# Altium schematic symbol library Sensor_Temperature.SchLib: 119 symbols (part 1 of 2)
Pins are listed as number, name and electrical type; pins without a type are passive.

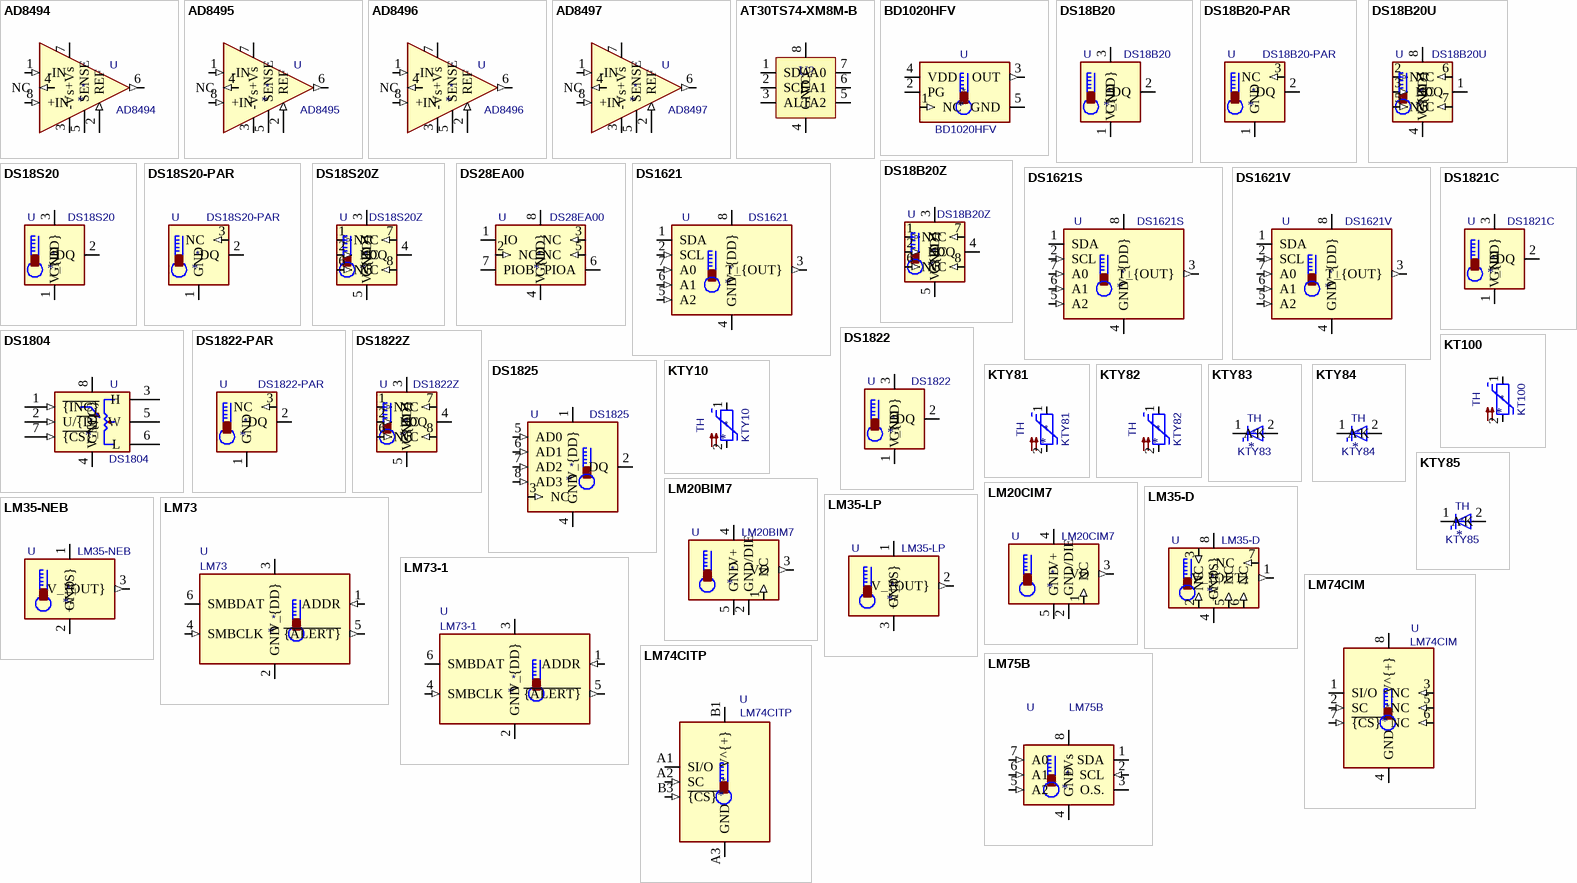
[diagram p0: symbols AD8494 to LM75B]

## AD8494
designator *  value AD8494  Reference: U
Precision Thermocouple Amplifiers with Cold Junction Compensation, J-Type Thermocouple, 0 to 50C, MSOP-8; ki_fp_filters: MSOP*8*; Footprint: Package_SO:MSOP-8_3x3mm_P0.65mm; Datasheet: https://www.analog.com/media/en/technical-documentation/data-sheets/ad8494_8495_8496_8497.pdf; Description_: Precision Thermocouple Amplifiers with Cold Junction Compensation, J-Type Thermocouple, 0 to 50C, MSOP-8; ki_keywords: Thermocouple Amp
pins: 1 -IN (in), 2 REF (in), 3 -Vs (power), 4 NC (in), 5 SENSE, 6 (out), 7 +Vs (power), 8 +IN (in)

## AD8495
designator *  value AD8495  Reference: U
Precision Thermocouple Amplifiers with Cold Junction Compensation, K-Type Thermocouple, 0 to 50C, MSOP-8; ki_fp_filters: MSOP*8*; Footprint: Package_SO:MSOP-8_3x3mm_P0.65mm; Datasheet: https://www.analog.com/media/en/technical-documentation/data-sheets/ad8494_8495_8496_8497.pdf; Description_: Precision Thermocouple Amplifiers with Cold Junction Compensation, K-Type Thermocouple, 0 to 50C, MSOP-8; ki_keywords: Thermocouple Amp
pins: 1 -IN (in), 2 REF (in), 3 -Vs (power), 4 NC (in), 5 SENSE, 6 (out), 7 +Vs (power), 8 +IN (in)

## AD8496
designator *  value AD8496  Reference: U
Precision Thermocouple Amplifiers with Cold Junction Compensation, J-Type Thermocouple, 25 to 100C, MSOP-8; ki_fp_filters: MSOP*8*; Footprint: Package_SO:MSOP-8_3x3mm_P0.65mm; Datasheet: https://www.analog.com/media/en/technical-documentation/data-sheets/ad8494_8495_8496_8497.pdf; Description_: Precision Thermocouple Amplifiers with Cold Junction Compensation, J-Type Thermocouple, 25 to 100C, MSOP-8; ki_keywords: Thermocouple Amp
pins: 1 -IN (in), 2 REF (in), 3 -Vs (power), 4 NC (in), 5 SENSE, 6 (out), 7 +Vs (power), 8 +IN (in)

## AD8497
designator *  value AD8497  Reference: U
Precision Thermocouple Amplifiers with Cold Junction Compensation, K-Type Thermocouple, 25 to 100C, MSOP-8; ki_fp_filters: MSOP*8*; Footprint: Package_SO:MSOP-8_3x3mm_P0.65mm; Datasheet: https://www.analog.com/media/en/technical-documentation/data-sheets/ad8494_8495_8496_8497.pdf; Description_: Precision Thermocouple Amplifiers with Cold Junction Compensation, K-Type Thermocouple, 25 to 100C, MSOP-8; ki_keywords: Thermocouple Amp
pins: 1 -IN (in), 2 REF (in), 3 -Vs (power), 4 NC (in), 5 SENSE, 6 (out), 7 +Vs (power), 8 +IN (in)

## AT30TS74-XM8M-B
designator U?  (value not drawn)
Board Mount Temperature Sensors I2C1.7-5.5V 3.4MHz Ind High Tmp 8-MSOP; Manufacturer: Microchip; Manufacturer Lifecycle Status: REL; Value: AT30TS74-XM8M-B; Interface: 2-Wire, I2C, SMBus; Max Supply Voltage: 5.5V; Min Supply Voltage: 1.7V; Operating Supply Current: 225µA; Output Type: Digital, I2C; Resolution: 1.375B; Case/Package: MSOP; Category: Temperature and Humidity Sensors; Contact Plating: Gold; Country of Assembly: Thailand; Country of Fabrication: United States of America; Country of Origin: Thailand; Export Control Classification Number (ECCN) Code: EAR99; Harmonized Tariff Schedule (HTS) Code: 8542.31.0075; Height: 1.1mm; HS Code: 8542.31.0075; Lifecycle Status: Production; Manufacturer Part Number: AT30TS74-XM8M-B; Max Operating Temperature: 125°C; Min Operating Temperature: -55°C; Mount: Surface Mount; Number of Pins: 8; Operating Supply Voltage: 5.5V; Packaging: Bulk; Projected EOL Date: 2044-05-20; RoHS: Compliant; Schedule B: 8542390000|8542390000; Supplier 1: Mouser; Supplier Part Number 1: 556-AT30TS74-XM8M-B; Supplier Packaging 1: Tube; Supplier Unit Price 1: $0.87; Supplier Location 1: US
footprint MSOP-8_3x3mm_P0.65mm
pins: 1 SDA, 2 SCL, 3 ALT, 4 GND (power), 5 A2, 6 A1, 7 A0, 8 VCC

## BD1020HFV
designator *  value BD1020HFV  Reference: U
Analog Output Temperature Sensor; ki_fp_filters: HVSOF5*; Footprint: Package_TO_SOT_SMD:HVSOF5; Datasheet: http://rohmfs.rohm.com/en/products/databook/datasheet/ic/sensor/temperature/bd1020hfv-e.pdf; Description_: Analog Output Temperature Sensor; ki_keywords: Temperature sensor
pins: 1 NC (in), 2 PG, 3 OUT (out), 4 VDD (power), 5 GND (power)

## DS18B20
designator *  value DS18B20  Reference: U
Programmable Resolution 1-Wire Digital Thermometer TO-92; ki_keywords: OneWire 1Wire Dallas Maxim; ki_fp_filters: TO*92*; Footprint: Package_TO_SOT_THT:TO-92_Inline; Datasheet: http://datasheets.maximintegrated.com/en/ds/DS18B20.pdf; Description_: Programmable Resolution 1-Wire Digital Thermometer TO-92
pins: 1 GND (power), 2 DQ (io), 3 V_{DD} (power)

## DS18B20-PAR
designator *  value DS18B20-PAR  Reference: U
1-Wire Parasite-Power Digital Thermometer TO-92; ki_keywords: OneWire 1Wire Maxim Dallas; ki_fp_filters: TO*92*; Footprint: Package_TO_SOT_THT:TO-92_Inline; Datasheet: http://datasheets.maximintegrated.com/en/ds/DS18B20-PAR.pdf; Description_: 1-Wire Parasite-Power Digital Thermometer TO-92
pins: 1 GND (power), 2 DQ (io), 3 NC (in)

## DS18B20U
designator *  value DS18B20U  Reference: U
Programmable Resolution 1-Wire Digital Thermometer MSOP-8; ki_keywords: OneWire 1-Wire 1Wire Maxim Dallas; ki_fp_filters: MSOP*3x3mm*P0.65mm*; Footprint: Package_SO:MSOP-8_3x3mm_P0.65mm; Datasheet: http://datasheets.maximintegrated.com/en/ds/DS18B20.pdf; Description_: Programmable Resolution 1-Wire Digital Thermometer MSOP-8
pins: 1 DQ (io), 2 NC (in), 3 NC (in), 4 GND (power), 5 NC (in), 6 NC (in), 7 NC (in), 8 V_{DD} (power)

## DS18B20Z
designator *  value DS18B20Z  Reference: U
Programmable Resolution 1-Wire Digital Thermometer SOIC-8; ki_keywords: OneWire 1Wire Maxim Dallas; ki_fp_filters: SOIC*3.9x4.9mm*P1.27mm*; Footprint: Package_SO:SOIC-8_3.9x4.9mm_P1.27mm; Datasheet: http://datasheets.maximintegrated.com/en/ds/DS18B20.pdf; Description_: Programmable Resolution 1-Wire Digital Thermometer SOIC-8
pins: 1 NC (in), 2 NC (in), 3 V_{DD} (power), 4 DQ (io), 5 GND (power), 6 NC (in), 7 NC (in), 8 NC (in)

## DS18S20
designator *  value DS18S20  Reference: U
High-Precision 1-Wire Digital Thermometer TO-92; ki_keywords: OneWire 1Wire Maxim Dallas; ki_fp_filters: TO*92*; Footprint: Package_TO_SOT_THT:TO-92_Inline; Datasheet: http://datasheets.maximintegrated.com/en/ds/DS18S20.pdf; Description_: High-Precision 1-Wire Digital Thermometer TO-92
pins: 1 GND (power), 2 DQ (io), 3 V_{DD} (power)

## DS18S20-PAR
designator *  value DS18S20-PAR  Reference: U
1-Wire Parasite-Power Digital Thermometer TO-92; ki_keywords: OneWire 1Wire Maxim Dallas; ki_fp_filters: TO*92*; Footprint: Package_TO_SOT_THT:TO-92_Inline; Datasheet: http://datasheets.maximintegrated.com/en/ds/DS18S20-PAR.pdf; Description_: 1-Wire Parasite-Power Digital Thermometer TO-92
pins: 1 GND (power), 2 DQ (io), 3 NC (in)

## DS18S20Z
designator *  value DS18S20Z  Reference: U
High-Precision 1-Wire Digital Thermometer SOIC-8; ki_keywords: OneWire 1Wire Dallas Maxim; ki_fp_filters: SOIC*3.9x4.9mm*P1.27mm*; Footprint: Package_SO:SOIC-8_3.9x4.9mm_P1.27mm; Datasheet: http://datasheets.maximintegrated.com/en/ds/DS18S20.pdf; Description_: High-Precision 1-Wire Digital Thermometer SOIC-8
pins: 1 NC (in), 2 NC (in), 3 V_{DD} (power), 4 DQ (io), 5 GND (power), 6 NC (in), 7 NC (in), 8 NC (in)

## DS28EA00
designator *  value DS28EA00  Reference: U
1-Wire Digital Thermometer with Sequence Detect and PIO; ki_keywords: 1Wire OneWire Maxim Dallas; ki_fp_filters: MSOP*3x3mm*P0.65mm*; Footprint: Package_SO:MSOP-8_3x3mm_P0.65mm; Datasheet: http://datasheets.maximintegrated.com/en/ds/DS28EA00.pdf; Description_: 1-Wire Digital Thermometer with Sequence Detect and PIO
pins: 1 IO (io), 2 NC (in), 3 NC (in), 4 GND (power), 5 NC (in), 6 PIOA (io), 7 PIOB (io), 8 V_{DD} (power)

## DS1621
designator *  value DS1621  Reference: U
1-Wire Digital Thermometer and Thermostat, DIP-8; ki_keywords: OneWire 1-Wire 1Wire Maxim Dallas; ki_fp_filters: DIP*W7.62mm*; Footprint: Package_DIP:DIP-8_W7.62mm; Datasheet: https://datasheets.maximintegrated.com/en/ds/DS1621.pdf; Description_: 1-Wire Digital Thermometer and Thermostat, DIP-8
pins: 1 SDA (io), 2 SCL (in), 3 T_{OUT} (out), 4 GND (power), 5 A2 (in), 6 A1 (in), 7 A0 (in), 8 V_{DD} (power)

## DS1621S
designator *  value DS1621S  Reference: U
1-Wire Digital Thermometer and Thermostat, SOIC-8 (150 mil); ki_keywords: OneWire 1-Wire 1Wire Maxim Dallas; ki_fp_filters: SOIC*3.9x4.9mm*P1.27mm*; Footprint: Package_SO:SOIC-8_3.9x4.9mm_P1.27mm; Datasheet: https://datasheets.maximintegrated.com/en/ds/DS1621.pdf; Description_: 1-Wire Digital Thermometer and Thermostat, SOIC-8 (150 mil)
pins: 1 SDA (io), 2 SCL (in), 3 T_{OUT} (out), 4 GND (power), 5 A2 (in), 6 A1 (in), 7 A0 (in), 8 V_{DD} (power)

## DS1621V
designator *  value DS1621V  Reference: U
1-Wire Digital Thermometer and Thermostat, SOIC-8 (208 mil); ki_keywords: OneWire 1-Wire 1Wire Maxim Dallas; ki_fp_filters: *SOIC*5.3x5.3mm*P1.27mm*; Footprint: Package_SO:SOIC-8_5.3x5.3mm_P1.27mm; Datasheet: https://datasheets.maximintegrated.com/en/ds/DS1621.pdf; Description_: 1-Wire Digital Thermometer and Thermostat, SOIC-8 (208 mil)
pins: 1 SDA (io), 2 SCL (in), 3 T_{OUT} (out), 4 GND (power), 5 A2 (in), 6 A1 (in), 7 A0 (in), 8 V_{DD} (power)

## DS1804
designator *  value DS1804  Reference: U
Nonvolatile Trimmer Potentiometer, DIP-8; ki_fp_filters: DIP*W7.62mm*; Footprint: Package_DIP:DIP-8_W7.62mm; Datasheet: https://www.analog.com/media/en/technical-documentation/data-sheets/DS1804.pdf; Description_: Nonvolatile Trimmer Potentiometer, DIP-8
pins: 1 ~{{INC}} (in), 2 U/~{{D}} (in), 3 H, 4 GND (power), 5 W, 6 L, 7 ~{{CS}} (in), 8 V_{CC} (power)

## DS1821C
designator *  value DS1821C  Reference: U
Programmable Digital Thermostat and Thermometer TO-92; ki_keywords: OneWire 1Wire Maxim Dallas; ki_fp_filters: TO*92*; Footprint: Package_TO_SOT_THT:TO-92_Inline; Datasheet: http://datasheets.maximintegrated.com/en/ds/DS1821.pdf; Description_: Programmable Digital Thermostat and Thermometer TO-92
pins: 1 GND (power), 2 DQ (io), 3 V_{DD} (power)

## DS1822
designator *  value DS1822  Reference: U
Econo 1-Wire Digital Thermometer TO-92; ki_keywords: OneWire 1Wire Dallas Maxim; ki_fp_filters: TO*92*; Footprint: Package_TO_SOT_THT:TO-92_Inline; Datasheet: http://datasheets.maximintegrated.com/en/ds/DS1822.pdf; Description_: Econo 1-Wire Digital Thermometer TO-92
pins: 1 GND (power), 2 DQ (io), 3 V_{DD} (power)

## DS1822-PAR
designator *  value DS1822-PAR  Reference: U
Econo 1-Wire Parasite-Power Digital Thermometer TO-92; ki_keywords: OneWire 1Wire Maxim Dallas; ki_fp_filters: TO*92*; Footprint: Package_TO_SOT_THT:TO-92_Inline; Datasheet: http://datasheets.maximintegrated.com/en/ds/DS1822-PAR.pdf; Description_: Econo 1-Wire Parasite-Power Digital Thermometer TO-92
pins: 1 GND (power), 2 DQ (io), 3 NC (in)

## DS1822Z
designator *  value DS1822Z  Reference: U
Econo 1-Wire Digital Thermometer SOIC-8; ki_keywords: OneWire 1-Wire 1Wire Maxim Dallas; ki_fp_filters: SOIC*3.9x4.9mm*P1.27mm*; Footprint: Package_SO:SOIC-8_3.9x4.9mm_P1.27mm; Datasheet: http://datasheets.maximintegrated.com/en/ds/DS1822.pdf; Description_: Econo 1-Wire Digital Thermometer SOIC-8
pins: 1 NC (in), 2 NC (in), 3 V_{DD} (power), 4 DQ (io), 5 GND (power), 6 NC (in), 7 NC (in), 8 NC (in)

## DS1825
designator *  value DS1825  Reference: U
Programmable Resolution 1-Wire Digital Thermometer With 4-Bit ID MSOP-8; ki_keywords: 1Wire OneWire Maxim Dallas; ki_fp_filters: MSOP*3x3mm*P0.65mm*; Footprint: Package_SO:MSOP-8_3x3mm_P0.65mm; Datasheet: http://datasheets.maximintegrated.com/en/ds/DS1825.pdf; Description_: Programmable Resolution 1-Wire Digital Thermometer With 4-Bit ID MSOP-8
pins: 1 V_{DD} (power), 2 DQ (io), 3 NC (in), 4 GND (power), 5 AD0 (in), 6 AD1 (in), 7 AD2 (in), 8 AD3 (in)

## KT100
designator *  value KT100  Reference: TH
KTY10/KT100 series silicon temperature sensors; ki_fp_filters: SOD?70*; Datasheet: http://www.b-kainka.de/Daten/Sensor/kty10.pdf; Description_: KTY10/KT100 series silicon temperature sensors; ki_keywords: silicon temperature sensors
pins: 1, 2

## KTY10
designator *  value KTY10  Reference: TH
KTY10/KT100 series silicon temperature sensors; ki_fp_filters: SOD?70*; Datasheet: http://www.b-kainka.de/Daten/Sensor/kty10.pdf; Description_: KTY10/KT100 series silicon temperature sensors; ki_keywords: silicon temperature sensors
pins: 1, 2

## KTY81
designator *  value KTY81  Reference: TH
KTY81 series silicon temperature sensors; ki_fp_filters: SOD?70*; Datasheet: https://www.nxp.com/docs/en/data-sheet/KTY81_SER.pdf; Description_: KTY81 series silicon temperature sensors; ki_keywords: silicon temperature sensors
pins: 1, 2

## KTY82
designator *  value KTY82  Reference: TH
KTY82 series silicon temperature sensors, SOT-23; ki_fp_filters: SOT?23*; Footprint: Package_TO_SOT_SMD:SOT-23; Datasheet: https://www.nxp.com/docs/en/data-sheet/KTY82_SER.pdf; Description_: KTY82 series silicon temperature sensors, SOT-23; ki_keywords: silicon temperature sensors
pins: 1, 2

## KTY83
designator *  value KTY83  Reference: TH
KTY83 series silicon temperature sensors, polarized, SOD68; ki_keywords: silicon temperature sensors diode; ki_fp_filters: *DO?34*SOD68*; Footprint: Diode_THT:D_DO-34_SOD68_P7.62mm_Horizontal; Datasheet: https://www.nxp.com/docs/en/data-sheet/KTY83_SER.pdf; Description_: KTY83 series silicon temperature sensors, polarized, SOD68
pins: 1 K, 2 A

## KTY84
designator *  value KTY84  Reference: TH
KTY84 series silicon temperature sensors, polarized, SOD68; ki_keywords: silicon temperature sensor diode; ki_fp_filters: *DO?34*SOD68*; Footprint: Diode_THT:D_DO-34_SOD68_P7.62mm_Horizontal; Datasheet: https://www.nxp.com/docs/en/data-sheet/KTY84_SER.pdf; Description_: KTY84 series silicon temperature sensors, polarized, SOD68
pins: 1 K, 2 A

## KTY85
designator *  value KTY85  Reference: TH
KTY85 series silicon temperature sensors, polarized, SOD80; ki_keywords: silicon temperature sensor diode; ki_fp_filters: SOD80*; Footprint: Diode_SMD:D_MiniMELF; Datasheet: http://www.nxp.com/documents/other/SC17_GENERAL_TEMP_1996_3.pdf; Description_: KTY85 series silicon temperature sensors, polarized, SOD80
pins: 1 K, 2 A

## LM20BIM7
designator *  value LM20BIM7  Reference: U
Precision Temperature Sensor, Accuracy at 30°C ±1.5°C to ±4°C Maximum, SC70; ki_keywords: temperature sensor thermistor; ki_fp_filters: SOT?353*; Footprint: Package_TO_SOT_SMD:SOT-353_SC-70-5; Datasheet: http://www.ti.com/lit/ds/symlink/lm20.pdf; Description_: Precision Temperature Sensor, Accuracy at 30°C ±1.5°C to ±4°C Maximum, SC70
pins: 1 NC (in), 2 GND/DIE, 3 VO (out), 4 V+ (power), 5 GND (power)

## LM20CIM7
designator *  value LM20CIM7  Reference: U
Precision Temperature Sensor, Accuracy at 30°C ±4°C to ±5°C Maximum, SC70; ki_keywords: temperature sensor thermistor; ki_fp_filters: SOT?353*; Footprint: Package_TO_SOT_SMD:SOT-353_SC-70-5; Datasheet: http://www.ti.com/lit/ds/symlink/lm20.pdf; Description_: Precision Temperature Sensor, Accuracy at 30°C ±4°C to ±5°C Maximum, SC70
pins: 1 NC (in), 2 GND/DIE, 3 VO (out), 4 V+ (power), 5 GND (power)

## LM35-D
designator *  value LM35-D  Reference: U
Precision centigrade temperature sensor, SOIC-8; ki_keywords: temperature sensor thermistor; ki_fp_filters: SOIC*; Footprint: Package_SO:SOIC-8_3.9x4.9mm_P1.27mm; Datasheet: http://www.ti.com/lit/ds/symlink/lm35.pdf; Description_: Precision centigrade temperature sensor, SOIC-8
pins: 1 V_{OUT} (out), 2 NC (in), 3 NC (in), 4 GND (power), 5 NC (in), 6 NC (in), 7 NC (in), 8 +V_{S} (power)

## LM35-LP
designator *  value LM35-LP  Reference: U
Precision centigrade temperature sensor, TO-92; ki_keywords: temperature sensor thermistor; ki_fp_filters: TO?92*; Footprint: Package_TO_SOT_THT:TO-92_Inline; Datasheet: http://www.ti.com/lit/ds/symlink/lm35.pdf; Description_: Precision centigrade temperature sensor, TO-92
pins: 1 +V_{S} (power), 2 V_{OUT} (out), 3 GND (power)

## LM35-NEB
designator *  value LM35-NEB  Reference: U
Precision centigrade temperature sensor, TO-220; ki_keywords: temperature sensor thermistor; ki_fp_filters: TO?220*; Footprint: Package_TO_SOT_THT:TO-220-3_Vertical; Datasheet: http://www.ti.com/lit/ds/symlink/lm35.pdf; Description_: Precision centigrade temperature sensor, TO-220
pins: 1 +V_{S} (power), 2 GND (power), 3 V_{OUT} (out)

## LM73
designator *  value LM73  Reference: U
11 to 14 Bit digital temperature sensor with 2 wire interface, SOT23-6; ki_fp_filters: SOT?23*; Footprint: Package_TO_SOT_SMD:SOT-23-6; Datasheet: http://www.ti.com/lit/ds/symlink/lm73.pdf; Description_: 11 to 14 Bit digital temperature sensor with 2 wire interface, SOT23-6; ki_keywords: digital temperature sensor
pins: 1 ADDR (in), 2 GND (power), 3 V_{DD} (power), 4 SMBCLK (in), 5 ~{{ALERT}} (out), 6 SMBDAT (io)

## LM73-1
designator *  value LM73-1  Reference: U
11 to 14 Bit digital temperature sensor with 2 wire interface, SOT23-6; ki_fp_filters: SOT?23*; Footprint: Package_TO_SOT_SMD:SOT-23-6; Datasheet: http://www.ti.com/lit/ds/symlink/lm73.pdf; Description_: 11 to 14 Bit digital temperature sensor with 2 wire interface, SOT23-6; ki_keywords: digital temperature sensor
pins: 1 ADDR (in), 2 GND (power), 3 V_{DD} (power), 4 SMBCLK (in), 5 ~{{ALERT}} (out), 6 SMBDAT (io)

## LM74CIM
designator *  value LM74CIM  Reference: U
12-Bit plus sign digital temperature sensor with SPI/Microwire, SOIC-8; ki_fp_filters: SOIC?8*3.9x4.9mm*P1.27mm*; Footprint: Package_SO:SOIC-8_3.9x4.9mm_P1.27mm; Datasheet: https://www.ti.com/lit/ds/symlink/lm74.pdf; Description_: 12-Bit plus sign digital temperature sensor with SPI/Microwire, SOIC-8; ki_keywords: Temperature sensor
pins: 1 SI/O (io), 2 SC (in), 3 NC (in), 4 GND (power), 5 NC (in), 6 NC (in), 7 ~{{CS}} (in), 8 V^{+} (power)

## LM74CITP
designator *  value LM74CITP  Reference: U
12-Bit plus sign digital temperature sensor with SPI/Microwire, DSBGA-5; ki_fp_filters: *DSBGA*1.5855x1.6365*P0.5mm*; Footprint: Package_BGA:Texas_DSBGA-5_1.5855x1.6365mm_Layout3x2_P0.5mm; Datasheet: https://www.ti.com/lit/ds/symlink/lm74.pdf; Description_: 12-Bit plus sign digital temperature sensor with SPI/Microwire, DSBGA-5; ki_keywords: Temperature sensor
pins: A1 SI/O (io), A2 SC (in), A3 GND (power), B1 V^{+} (power), B3 ~{{CS}} (in)

## LM75B
designator *  value LM75B  Reference: U
Digital Temperature Sensor & Thermal Watchdog with LP on I2C and bus fault timeout, SOIC-8 and VSSOP-8; ki_fp_filters: SOIC*3.9x4.9mm*P1.27mm* VSSOP*3x3mm*P0.65mm*; Datasheet: http://www.ti.com/lit/ds/symlink/lm75b.pdf; Description_: Digital Temperature Sensor & Thermal Watchdog with LP on I2C and bus fault timeout, SOIC-8 and VSSOP-8; ki_keywords: Temperature sensor
pins: 1 SDA (io), 2 SCL (in), 3 O.S. (oc), 4 GND (power), 5 A2 (in), 6 A1 (in), 7 A0 (in), 8 +Vs (power)

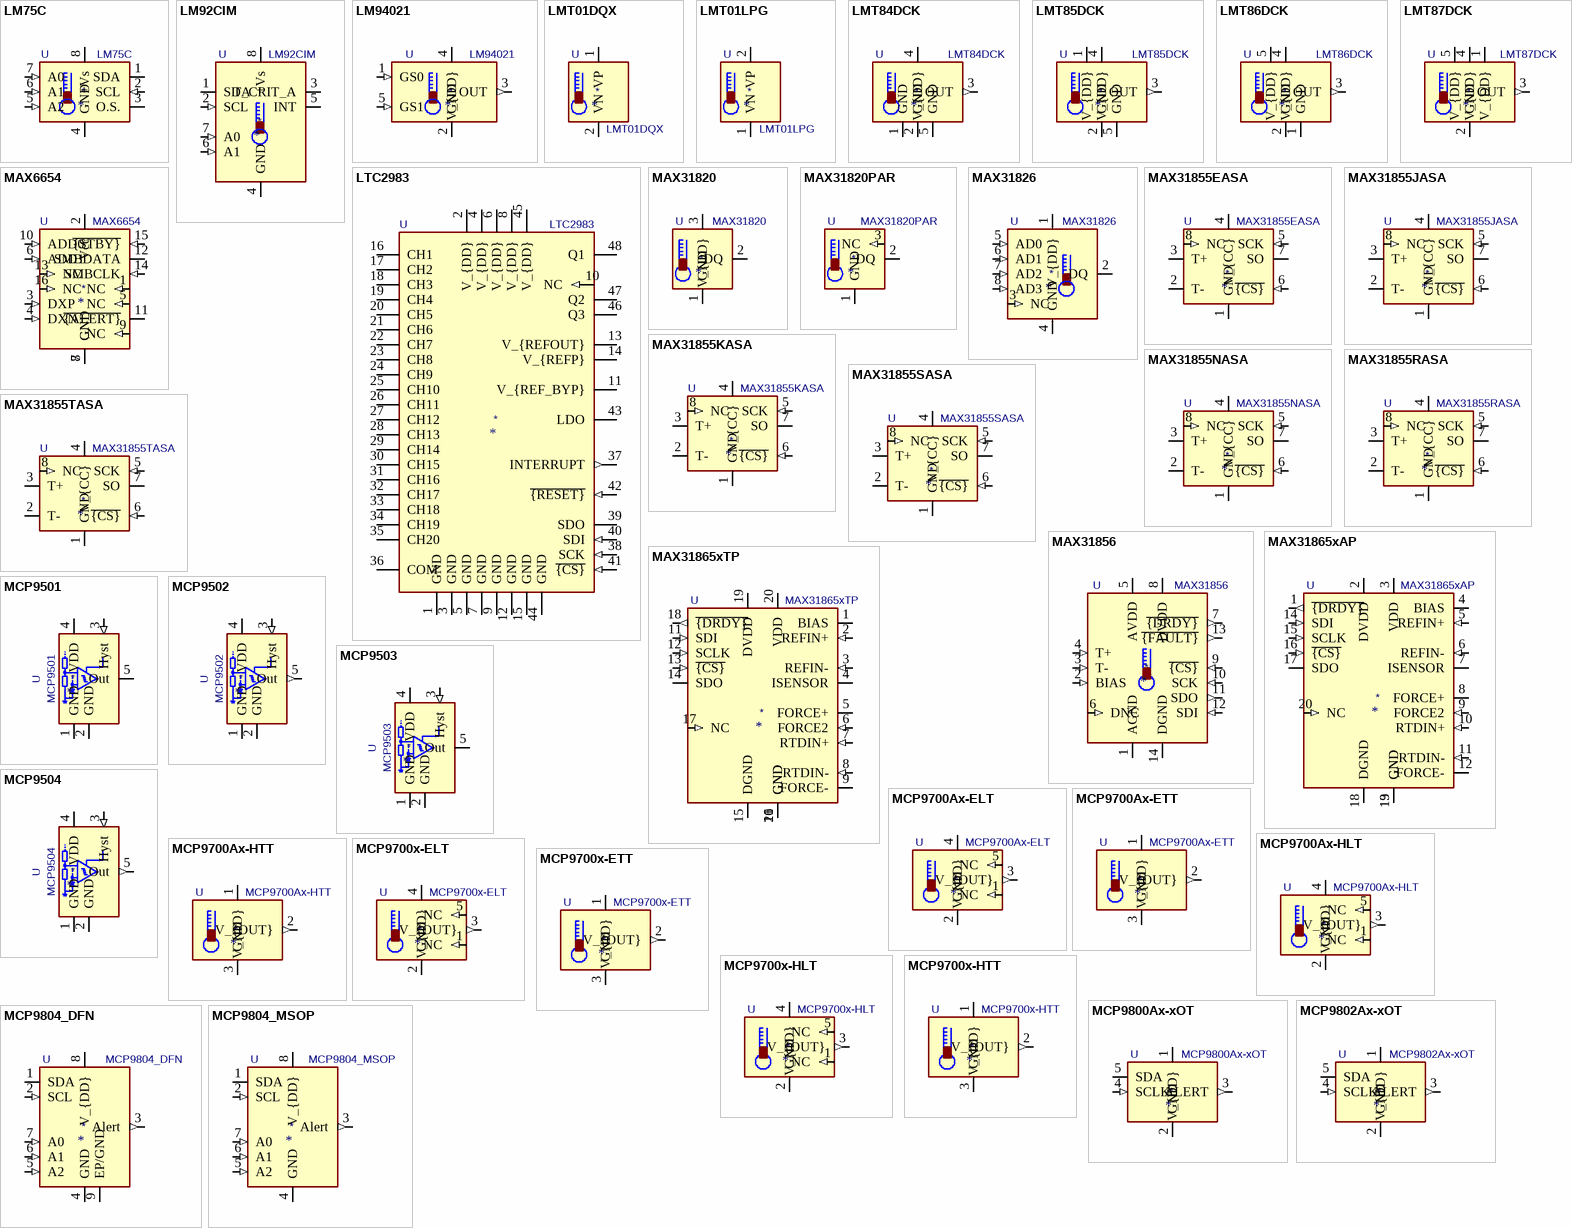
[diagram p1: symbols LM75C to MCP9804_MSOP]

## LM75C
designator *  value LM75C  Reference: U
Digital Temperature Sensor & Thermal Watchdog, SOIC-8 and VSSOP-8; ki_fp_filters: SOIC*3.9x4.9mm*P1.27mm* VSSOP*3x3mm*P0.65mm*; Datasheet: http://www.ti.com/lit/ds/symlink/lm75b.pdf; Description_: Digital Temperature Sensor & Thermal Watchdog, SOIC-8 and VSSOP-8; ki_keywords: Temperature sensor
pins: 1 SDA (io), 2 SCL (in), 3 O.S. (oc), 4 GND (power), 5 A2 (in), 6 A1 (in), 7 A0 (in), 8 +Vs (power)

## LM92CIM
designator *  value LM92CIM  Reference: U
Digital Temperature Sensor and Thermal Window Comparator With Two-Wire (I2C) Interface, SOIC-8; ki_fp_filters: SOIC*3.9x4.9mm*P1.27mm*; Footprint: Package_SO:SOIC-8_3.9x4.9mm_P1.27mm; Datasheet: https://www.ti.com/lit/ds/symlink/lm92.pdf; Description_: Digital Temperature Sensor and Thermal Window Comparator With Two-Wire (I2C) Interface, SOIC-8; ki_keywords: temperature sensor
pins: 1 SDA (io), 2 SCL (in), 3 T_CRIT_A (oc), 4 GND (power), 5 INT (oc), 6 A1 (in), 7 A0 (in), 8 +Vs (power)

## LM94021
designator *  value LM94021  Reference: U
Analog, selectable coefficient -5.5/-8.2/-10.9/-13.6mV/°C, ±2C accuracy, 1.5-5.5V supply, -50C to +150C, SOT-323; ki_keywords: thermistor texas ti gain temperature sensor; ki_fp_filters: Texas?R?PDSO?G5?DCK*; Footprint: Package_TO_SOT_SMD:Texas_R-PDSO-G5_DCK-5; Datasheet: https://www.ti.com/lit/ds/symlink/lm94021-q1.pdf; Description_: Analog, selectable coefficient -5.5/-8.2/-10.9/-13.6mV/°C, ±2C accuracy, 1.5-5.5V supply, -50C to +150C, SOT-323
pins: 1 GS0 (in), 2 GND (power), 3 OUT (out), 4 V_{DD} (power), 5 GS1 (in)

## LMT01DQX
designator *  value LMT01DQX  Reference: U
0.5°C Accurate 2-Pin Digital Output Temperature Sensor With Pulse Count Interface. DQX (WSON-2) package; ki_keywords: Digital Temperature Pulse Count; ki_fp_filters: Texas?DQX*; Footprint: Package_SON:Texas_DQX002A; Datasheet: https://www.ti.com/lit/ds/symlink/lmt01.pdf; Description_: 0.5°C Accurate 2-Pin Digital Output Temperature Sensor With Pulse Count Interface. DQX (WSON-2) package
pins: 1 VP (io), 2 VN (io)

## LMT01LPG
designator *  value LMT01LPG  Reference: U
0.5°C Accurate 2-Pin Digital Output Temperature Sensor With Pulse Count Interface. TO-92-2 package; ki_keywords: Digital Temperature Pulse Count; ki_fp_filters: TO?92*; Footprint: Package_TO_SOT_THT:TO-92-2; Datasheet: https://www.ti.com/lit/ds/symlink/lmt01.pdf; Description_: 0.5°C Accurate 2-Pin Digital Output Temperature Sensor With Pulse Count Interface. TO-92-2 package
pins: 1 VN (io), 2 VP (io)

## LMT84DCK
designator *  value LMT84DCK  Reference: U
Analog temperature sensor, NTC, 0.4C accuracy, -5.5mV/C, -50C to +150C, 1.5 to 5.5V, SC-70-5; ki_keywords: temperature sensor thermistor ntc; ki_fp_filters: *SC?70*; Footprint: Package_TO_SOT_SMD:SOT-353_SC-70-5; Datasheet: http://www.ti.com/lit/ds/symlink/lmt84.pdf; Description_: Analog temperature sensor, NTC, 0.4C accuracy, -5.5mV/C, -50C to +150C, 1.5 to 5.5V, SC-70-5
pins: 1 GND (power), 2 GND (power), 3 OUT (out), 4 V_{DD} (power), 5 GND (power)

## LMT85DCK
designator *  value LMT85DCK  Reference: U
Analog temperature sensor, NTC, 0.3C accuracy, -8.2mV/C, -50C to +150C, 1.8 to 5.5V, SC-70-5; ki_keywords: temperature sensor thermistor ntc; ki_fp_filters: *SC?70*; Footprint: Package_TO_SOT_SMD:SOT-353_SC-70-5; Datasheet: http://www.ti.com/lit/ds/symlink/lmt85-q1.pdf; Description_: Analog temperature sensor, NTC, 0.3C accuracy, -8.2mV/C, -50C to +150C, 1.8 to 5.5V, SC-70-5
pins: 1 V_{DD} (power), 2 GND (power), 3 OUT (out), 4 V_{DD} (power), 5 GND (power)

## LMT86DCK
designator *  value LMT86DCK  Reference: U
Analog temperature sensor, NTC, 0.25C accuracy, -10.9mV/C, -50C to +150C, 2.2 to 5.5V, SC-70-5; ki_keywords: temperature sensor thermistor ntc; ki_fp_filters: *SC?70*; Footprint: Package_TO_SOT_SMD:SOT-353_SC-70-5; Datasheet: http://www.ti.com/lit/ds/symlink/lmt86-q1.pdf; Description_: Analog temperature sensor, NTC, 0.25C accuracy, -10.9mV/C, -50C to +150C, 2.2 to 5.5V, SC-70-5
pins: 1 GND (power), 2 GND (power), 3 OUT (out), 4 V_{DD} (power), 5 V_{DD} (power)

## LMT87DCK
designator *  value LMT87DCK  Reference: U
Analog temperature sensor, NTC, 0.3C accuracy, -13.6mV/C, -50C to +150C, 2.7 to 5.5V, SC-70-5; ki_keywords: temperature sensor thermistor ntc; ki_fp_filters: *SC?70*; Footprint: Package_TO_SOT_SMD:SOT-353_SC-70-5; Datasheet: http://www.ti.com/lit/ds/symlink/lmt87-q1.pdf; Description_: Analog temperature sensor, NTC, 0.3C accuracy, -13.6mV/C, -50C to +150C, 2.7 to 5.5V, SC-70-5
pins: 1 V_{DD} (power), 2 GND (power), 3 OUT (out), 4 V_{DD} (power), 5 V_{DD} (power)

## LTC2983
designator *  value LTC2983  Reference: U
Multi-Sensor Temperature Measurement System, High Accuracy, LQFP-48 (7x7mm); ki_keywords: Flexible Temperature Measurement RTD NTC Cold Junction Termocouple; ki_fp_filters: LQFP*7x7mm*P0.5mm*; Footprint: Package_QFP:LQFP-48_7x7mm_P0.5mm; Datasheet: https://www.analog.com/media/en/technical-documentation/data-sheets/2983fc.pdf; Description_: Multi-Sensor Temperature Measurement System, High Accuracy, LQFP-48 (7x7mm)
pins: 1 GND (power), 2 V_{DD} (power), 3 GND (power), 4 V_{DD} (power), 5 GND (power), 6 V_{DD} (power), 7 GND (power), 8 V_{DD} (power), 9 GND (power), 10 NC (in), 11 V_{REF_BYP}, 12 GND (power), 13 V_{REFOUT}, 14 V_{REFP}, 15 GND (power), 16 CH1, 17 CH2, 18 CH3, 19 CH4, 20 CH5, 21 CH6, 22 CH7, 23 CH8, 24 CH9, 25 CH10, 26 CH11, 27 CH12, 28 CH13, 29 CH14, 30 CH15, 31 CH16, 32 CH17, 33 CH18, 34 CH19, 35 CH20, 36 COM, 37 INTERRUPT (out), 38 SCK (in), 39 SDO (hiz), 40 SDI (in), 41 ~{{CS}} (in), 42 ~{{RESET}} (in), 43 LDO, 44 GND (power), 45 V_{DD} (power), 46 Q3, 47 Q2, 48 Q1

## MAX6654
designator *  value MAX6654  Reference: U
Remote and Local Temperature Sensor, SSOP-16; ki_keywords: I2C SMBus Serial; ki_fp_filters: *SOP*3.9x4.9mm*P0.635mm*; Footprint: Package_SO:SSOP-16_3.9x4.9mm_P0.635mm; Datasheet: https://datasheets.maximintegrated.com/en/ds/MAX6654.pdf; Description_: Remote and Local Temperature Sensor, SSOP-16
pins: 1 NC (in), 2 Vcc (power), 3 DXP (in), 4 DXN (in), 5 NC (in), 6 ADD1 (in), 7 GND (power), 8 GND, 9 NC (in), 10 ADD0 (in), 11 ~{{ALERT}} (oc), 12 SMBDATA (io), 13 NC (in), 14 SMBCLK (in), 15 ~{{STBY}} (in), 16 NC (in)

## MAX31820
designator *  value MAX31820  Reference: U
1-Wire Ambient Temperature Sensor TO-92; ki_keywords: OneWire 1-Wire 1Wire Maxim Dallas; ki_fp_filters: TO*92*; Footprint: Package_TO_SOT_THT:TO-92_Inline; Datasheet: http://datasheets.maximintegrated.com/en/ds/MAX31820.pdf; Description_: 1-Wire Ambient Temperature Sensor TO-92
pins: 1 GND (power), 2 DQ (io), 3 V_{DD} (power)

## MAX31820PAR
designator *  value MAX31820PAR  Reference: U
1-Wire, Parasite-Power, Ambient Temperature Sensor TO-92; ki_keywords: OneWire 1-Wire 1Wire Maxim Dallas; ki_fp_filters: TO*92*; Footprint: Package_TO_SOT_THT:TO-92_Inline; Datasheet: http://datasheets.maximintegrated.com/en/ds/MAX31820PAR.pdf; Description_: 1-Wire, Parasite-Power, Ambient Temperature Sensor TO-92
pins: 1 GND (power), 2 DQ (io), 3 NC (in)

## MAX31826
designator *  value MAX31826  Reference: U
1-Wire Digital Temperature Sensor with 1Kb Lockable EEPROM MSOP-8; ki_keywords: 1Wire OneWire Maxim Dallas; ki_fp_filters: MSOP*3x3mm*P0.65mm*; Footprint: Package_SO:MSOP-8_3x3mm_P0.65mm; Datasheet: http://datasheets.maximintegrated.com/en/ds/MAX31826.pdf; Description_: 1-Wire Digital Temperature Sensor with 1Kb Lockable EEPROM MSOP-8
pins: 1 V_{DD} (power), 2 DQ (io), 3 NC (in), 4 GND (power), 5 AD0 (in), 6 AD1 (in), 7 AD2 (in), 8 AD3 (in)

## MAX31855EASA
designator *  value MAX31855EASA  Reference: U
Cold Junction E-type Thermocouple Interface, SPI, SOIC-8; ki_keywords: Maxim; ki_fp_filters: SOIC*3.9x4.9mm*P1.27mm*; Footprint: Package_SO:SOIC-8_3.9x4.9mm_P1.27mm; Datasheet: http://datasheets.maximintegrated.com/en/ds/MAX31855.pdf; Description_: Cold Junction E-type Thermocouple Interface, SPI, SOIC-8
pins: 1 GND (power), 2 T-, 3 T+, 4 V_{CC} (power), 5 SCK (in), 6 ~{{CS}} (in), 7 SO (hiz), 8 NC (in)

## MAX31855JASA
designator *  value MAX31855JASA  Reference: U
Cold Junction J-type Thermocouple Interface, SPI, SOIC-8; ki_keywords: Maxim; ki_fp_filters: SOIC*3.9x4.9mm*P1.27mm*; Footprint: Package_SO:SOIC-8_3.9x4.9mm_P1.27mm; Datasheet: http://datasheets.maximintegrated.com/en/ds/MAX31855.pdf; Description_: Cold Junction J-type Thermocouple Interface, SPI, SOIC-8
pins: 1 GND (power), 2 T-, 3 T+, 4 V_{CC} (power), 5 SCK (in), 6 ~{{CS}} (in), 7 SO (hiz), 8 NC (in)

## MAX31855KASA
designator *  value MAX31855KASA  Reference: U
Cold Junction K-type Thermocouple Interface, SPI, SOIC-8; ki_keywords: Maxim; ki_fp_filters: SOIC*3.9x4.9mm*P1.27mm*; Footprint: Package_SO:SOIC-8_3.9x4.9mm_P1.27mm; Datasheet: http://datasheets.maximintegrated.com/en/ds/MAX31855.pdf; Description_: Cold Junction K-type Thermocouple Interface, SPI, SOIC-8
pins: 1 GND (power), 2 T-, 3 T+, 4 V_{CC} (power), 5 SCK (in), 6 ~{{CS}} (in), 7 SO (hiz), 8 NC (in)

## MAX31855NASA
designator *  value MAX31855NASA  Reference: U
Cold Junction N-type Thermocouple Interface, SPI, SOIC-8; ki_keywords: Maxim; ki_fp_filters: SOIC*3.9x4.9mm*P1.27mm*; Footprint: Package_SO:SOIC-8_3.9x4.9mm_P1.27mm; Datasheet: http://datasheets.maximintegrated.com/en/ds/MAX31855.pdf; Description_: Cold Junction N-type Thermocouple Interface, SPI, SOIC-8
pins: 1 GND (power), 2 T-, 3 T+, 4 V_{CC} (power), 5 SCK (in), 6 ~{{CS}} (in), 7 SO (hiz), 8 NC (in)

## MAX31855RASA
designator *  value MAX31855RASA  Reference: U
Cold Junction R-type Thermocouple Interface, SPI, SOIC-8; ki_keywords: Maxim; ki_fp_filters: SOIC*3.9x4.9mm*P1.27mm*; Footprint: Package_SO:SOIC-8_3.9x4.9mm_P1.27mm; Datasheet: http://datasheets.maximintegrated.com/en/ds/MAX31855.pdf; Description_: Cold Junction R-type Thermocouple Interface, SPI, SOIC-8
pins: 1 GND (power), 2 T-, 3 T+, 4 V_{CC} (power), 5 SCK (in), 6 ~{{CS}} (in), 7 SO (hiz), 8 NC (in)

## MAX31855SASA
designator *  value MAX31855SASA  Reference: U
Cold Junction S-type Thermocouple Interface, SPI, SOIC-8; ki_keywords: Maxim; ki_fp_filters: SOIC*3.9x4.9mm*P1.27mm*; Footprint: Package_SO:SOIC-8_3.9x4.9mm_P1.27mm; Datasheet: http://datasheets.maximintegrated.com/en/ds/MAX31855.pdf; Description_: Cold Junction S-type Thermocouple Interface, SPI, SOIC-8
pins: 1 GND (power), 2 T-, 3 T+, 4 V_{CC} (power), 5 SCK (in), 6 ~{{CS}} (in), 7 SO (hiz), 8 NC (in)

## MAX31855TASA
designator *  value MAX31855TASA  Reference: U
Cold Junction T-type Thermocouple Interface, SPI, SOIC-8; ki_keywords: Maxim; ki_fp_filters: SOIC*3.9x4.9mm*P1.27mm*; Footprint: Package_SO:SOIC-8_3.9x4.9mm_P1.27mm; Datasheet: http://datasheets.maximintegrated.com/en/ds/MAX31855.pdf; Description_: Cold Junction T-type Thermocouple Interface, SPI, SOIC-8
pins: 1 GND (power), 2 T-, 3 T+, 4 V_{CC} (power), 5 SCK (in), 6 ~{{CS}} (in), 7 SO (hiz), 8 NC (in)

## MAX31856
designator *  value MAX31856  Reference: U
Precision Thermocouple to Digital Converter with Linearization, TSSOP-14; ki_keywords: Thermocouple converter serial; ki_fp_filters: TSSOP*14*4.4x5mm*P0.65mm*; Footprint: Package_SO:TSSOP-14_4.4x5mm_P0.65mm; Datasheet: https://datasheets.maximintegrated.com/en/ds/MAX31856.pdf; Description_: Precision Thermocouple to Digital Converter with Linearization, TSSOP-14
pins: 1 AGND (power), 2 BIAS (in), 3 T- (in), 4 T+ (in), 5 AVDD (power), 6 DNC (in), 7 ~{{DRDY}} (out), 8 DVDD (power), 9 ~{{CS}} (in), 10 SCK (in), 11 SDO (out), 12 SDI (in), 13 ~{{FAULT}} (out), 14 DGND (power)

## MAX31865xAP
designator *  value MAX31865xAP  Reference: U
RTD-to-Digital Converter, SSOP-20; ki_keywords: RTD SPI Temperature; ki_fp_filters: SSOP*P0.65mm*; Footprint: Package_SO:SSOP-20_5.3x7.2mm_P0.65mm; Datasheet: https://www.analog.com/media/en/technical-documentation/data-sheets/MAX31865.pdf; Description_: RTD-to-Digital Converter, SSOP-20
pins: 1 ~{{DRDY}} (out), 2 DVDD (power), 3 VDD (power), 4 BIAS (power), 5 REFIN+ (in), 6 REFIN- (in), 7 ISENSOR, 8 FORCE+, 9 FORCE2 (in), 10 RTDIN+ (in), 11 RTDIN- (in), 12 FORCE- (power), 13 GND (power), 14 SDI (in), 15 SCLK (in), 16 ~{{CS}} (in), 17 SDO (hiz), 18 DGND (power), 19 GND, 20 NC (in)

## MAX31865xTP
designator *  value MAX31865xTP  Reference: U
RTD-to-Digital Converter, TQFN-20; ki_keywords: RTD SPI Temperature; ki_fp_filters: TQFN*1EP*5x5mm*P0.65mm*; Footprint: Package_DFN_QFN:TQFN-20-1EP_5x5mm_P0.65mm_EP3.25x3.25mm; Datasheet: https://www.analog.com/media/en/technical-documentation/data-sheets/MAX31865.pdf; Description_: RTD-to-Digital Converter, TQFN-20
pins: 1 BIAS (power), 2 REFIN+ (in), 3 REFIN- (in), 4 ISENSOR, 5 FORCE+, 6 FORCE2 (in), 7 RTDIN+ (in), 8 RTDIN- (in), 9 FORCE- (power), 10 GND (power), 11 SDI (in), 12 SCLK (in), 13 ~{{CS}} (in), 14 SDO (hiz), 15 DGND (power), 16 GND, 17 NC (in), 18 ~{{DRDY}} (out), 19 DVDD (power), 20 VDD (power), 21 GND

## MCP9501
designator *  value MCP9501  Reference: U
Temperature Switch with Selectable Hysteresis, Open-Drain, Active-Low Output (Hot Option), SOT-23-5; ki_keywords: Temperature Switch sensor; ki_fp_filters: SOT?23*; Footprint: Package_TO_SOT_SMD:SOT-23-5; Datasheet: http://ww1.microchip.com/downloads/en/DeviceDoc/20002268B.pdf; Description_: Temperature Switch with Selectable Hysteresis, Open-Drain, Active-Low Output (Hot Option), SOT-23-5
pins: 1 GND (power), 2 GND (power), 3 Hyst (in), 4 VDD (power), 5 Out (oc)

## MCP9502
designator *  value MCP9502  Reference: U
Temperature Switch with Selectable Hysteresis, Push-Pull, Active-High Output (Hot Option), SOT-23-5; ki_keywords: Temperature Switch sensor; ki_fp_filters: SOT?23*; Footprint: Package_TO_SOT_SMD:SOT-23-5; Datasheet: http://ww1.microchip.com/downloads/en/DeviceDoc/20002268B.pdf; Description_: Temperature Switch with Selectable Hysteresis, Push-Pull, Active-High Output (Hot Option), SOT-23-5
pins: 1 GND (power), 2 GND (power), 3 Hyst (in), 4 VDD (power), 5 Out (out)

## MCP9503
designator *  value MCP9503  Reference: U
Temperature Switch with Selectable Hysteresis, Open-Drain, Active-Low Output (Cold Option), SOT-23-5; ki_keywords: Temperature Switch sensor; ki_fp_filters: SOT?23*; Footprint: Package_TO_SOT_SMD:SOT-23-5; Datasheet: http://ww1.microchip.com/downloads/en/DeviceDoc/20002268B.pdf; Description_: Temperature Switch with Selectable Hysteresis, Open-Drain, Active-Low Output (Cold Option), SOT-23-5
pins: 1 GND (power), 2 GND (power), 3 Hyst (in), 4 VDD (power), 5 Out (oc)

## MCP9504
designator *  value MCP9504  Reference: U
Temperature Switch with Selectable Hysteresis, Push-Pull, Active-High Output (Cold Option), SOT-23-5; ki_keywords: Temperature Switch sensor; ki_fp_filters: SOT?23*; Footprint: Package_TO_SOT_SMD:SOT-23-5; Datasheet: http://ww1.microchip.com/downloads/en/DeviceDoc/20002268B.pdf; Description_: Temperature Switch with Selectable Hysteresis, Push-Pull, Active-High Output (Cold Option), SOT-23-5
pins: 1 GND (power), 2 GND (power), 3 Hyst (in), 4 VDD (power), 5 Out (out)

## MCP9700Ax-ELT
designator *  value MCP9700Ax-ELT  Reference: U
Low power, analog thermistor temperature sensor, ±2C accuracy, -40C to +125C, in SC-70-5; ki_keywords: temperature sensor thermistor; ki_fp_filters: *SC?70*; Footprint: Package_TO_SOT_SMD:SOT-353_SC-70-5; Datasheet: http://ww1.microchip.com/downloads/en/DeviceDoc/20001942G.pdf; Description_: Low power, analog thermistor temperature sensor, ±2C accuracy, -40C to +125C, in SC-70-5
pins: 1 NC (in), 2 GND (power), 3 V_{OUT} (out), 4 V_{DD} (power), 5 NC (in)

## MCP9700Ax-ETT
designator *  value MCP9700Ax-ETT  Reference: U
Low power, analog thermistor temperature sensor, ±2C accuracy, -40C to +125C, in SOT-23-3; ki_keywords: temperature sensor thermistor; ki_fp_filters: SOT?23*; Footprint: Package_TO_SOT_SMD:SOT-23; Datasheet: http://ww1.microchip.com/downloads/en/devicedoc/20001942g.pdf; Description_: Low power, analog thermistor temperature sensor, ±2C accuracy, -40C to +125C, in SOT-23-3
pins: 1 V_{DD} (power), 2 V_{OUT} (out), 3 GND (power)

## MCP9700Ax-HLT
designator *  value MCP9700Ax-HLT  Reference: U
Low power, analog thermistor temperature sensor, ±2C accuracy, -40C to +150C, in SC-70-5; ki_keywords: temperature sensor thermistor; ki_fp_filters: *SC?70*; Footprint: Package_TO_SOT_SMD:SOT-353_SC-70-5; Datasheet: http://ww1.microchip.com/downloads/en/devicedoc/20001942g.pdf; Description_: Low power, analog thermistor temperature sensor, ±2C accuracy, -40C to +150C, in SC-70-5
pins: 1 NC (in), 2 GND (power), 3 V_{OUT} (out), 4 V_{DD} (power), 5 NC (in)

## MCP9700Ax-HTT
designator *  value MCP9700Ax-HTT  Reference: U
Low power, analog thermistor temperature sensor, ±2C accuracy, -40C to +150C, in SOT-23-3; ki_keywords: temperature sensor thermistor; ki_fp_filters: SOT?23*; Footprint: Package_TO_SOT_SMD:SOT-23; Datasheet: http://ww1.microchip.com/downloads/en/devicedoc/20001942g.pdf; Description_: Low power, analog thermistor temperature sensor, ±2C accuracy, -40C to +150C, in SOT-23-3
pins: 1 V_{DD} (power), 2 V_{OUT} (out), 3 GND (power)

## MCP9700x-ELT
designator *  value MCP9700x-ELT  Reference: U
Low power, analog thermistor temperature sensor, ±4C accuracy, -40C to +125C, in SC-70-5; ki_keywords: temperature sensor thermistor; ki_fp_filters: *SC?70*; Footprint: Package_TO_SOT_SMD:SOT-353_SC-70-5; Datasheet: http://ww1.microchip.com/downloads/en/devicedoc/20001942g.pdf; Description_: Low power, analog thermistor temperature sensor, ±4C accuracy, -40C to +125C, in SC-70-5
pins: 1 NC (in), 2 GND (power), 3 V_{OUT} (out), 4 V_{DD} (power), 5 NC (in)

## MCP9700x-ETT
designator *  value MCP9700x-ETT  Reference: U
Low power, analog thermistor temperature sensor, ±4C accuracy, -40C to +125C, in SOT-23-3; ki_keywords: temperature sensor thermistor; ki_fp_filters: SOT?23*; Footprint: Package_TO_SOT_SMD:SOT-23; Datasheet: http://ww1.microchip.com/downloads/en/devicedoc/20001942g.pdf; Description_: Low power, analog thermistor temperature sensor, ±4C accuracy, -40C to +125C, in SOT-23-3
pins: 1 V_{DD} (power), 2 V_{OUT} (out), 3 GND (power)

## MCP9700x-HLT
designator *  value MCP9700x-HLT  Reference: U
Low power, analog thermistor temperature sensor, ±4C accuracy, -40C to +150C, in SC-70-5; ki_keywords: temperature sensor thermistor; ki_fp_filters: *SC?70*; Footprint: Package_TO_SOT_SMD:SOT-353_SC-70-5; Datasheet: http://ww1.microchip.com/downloads/en/devicedoc/20001942g.pdf; Description_: Low power, analog thermistor temperature sensor, ±4C accuracy, -40C to +150C, in SC-70-5
pins: 1 NC (in), 2 GND (power), 3 V_{OUT} (out), 4 V_{DD} (power), 5 NC (in)

## MCP9700x-HTT
designator *  value MCP9700x-HTT  Reference: U
Low power, analog thermistor temperature sensor, ±4C accuracy, -40C to +150C, in SOT-23-3; ki_keywords: temperature sensor thermistor; ki_fp_filters: SOT?23*; Footprint: Package_TO_SOT_SMD:SOT-23; Datasheet: http://ww1.microchip.com/downloads/en/devicedoc/20001942g.pdf; Description_: Low power, analog thermistor temperature sensor, ±4C accuracy, -40C to +150C, in SOT-23-3
pins: 1 V_{DD} (power), 2 V_{OUT} (out), 3 GND (power)

## MCP9800Ax-xOT
designator *  value MCP9800Ax-xOT  Reference: U
2-Wire High-Accuracy Temperature Sensor, No Serial Bus time-out, SOT-23-5; ki_keywords: I2C Temperature Sensor No Serial Bus time-out; ki_fp_filters: SOT?23*; Footprint: Package_TO_SOT_SMD:SOT-23-5; Datasheet: https://ww1.microchip.com/downloads/aemDocuments/documents/OTH/ProductDocuments/DataSheets/21909d.pdf; Description_: 2-Wire High-Accuracy Temperature Sensor, No Serial Bus time-out, SOT-23-5
pins: 1 V_{DD} (power), 2 GND (power), 3 ALERT (out), 4 SCLK (in), 5 SDA (io)

## MCP9802Ax-xOT
designator *  value MCP9802Ax-xOT  Reference: U
2-Wire High-Accuracy Temperature Sensor, Serial Bus time-out 35 ms, SOT-23-5; ki_keywords: I2C Temperature Sensor Serial Bus time-out; ki_fp_filters: SOT?23*; Footprint: Package_TO_SOT_SMD:SOT-23-5; Datasheet: https://ww1.microchip.com/downloads/aemDocuments/documents/OTH/ProductDocuments/DataSheets/21909d.pdf; Description_: 2-Wire High-Accuracy Temperature Sensor, Serial Bus time-out 35 ms, SOT-23-5
pins: 1 V_{DD} (power), 2 GND (power), 3 ALERT (out), 4 SCLK (in), 5 SDA (io)

## MCP9804_DFN
designator *  value MCP9804_DFN  Reference: U
±0.25°C (±1°C) Typical (Maximum), Digital Temperature Sensor, DFN-8; ki_keywords: temperature sensor I2C; ki_fp_filters: DFN*1EP*3x2mm*P0.5mm*; Footprint: Package_DFN_QFN:DFN-8-1EP_3x2mm_P0.5mm_EP1.7x1.4mm; Datasheet: http://ww1.microchip.com/downloads/en/DeviceDoc/22203b.pdf; Description_: ±0.25°C (±1°C) Typical (Maximum), Digital Temperature Sensor, DFN-8
pins: 1 SDA (io), 2 SCL (in), 3 Alert (out), 4 GND (power), 5 A2 (in), 6 A1 (in), 7 A0 (in), 8 V_{DD} (power), 9 EP/GND (power)

## MCP9804_MSOP
designator *  value MCP9804_MSOP  Reference: U
±0.25°C (±1°C) Typical (Maximum), Digital Temperature Sensor, MSOP-8; ki_keywords: temperature sensor I2C; ki_fp_filters: MSOP*3x3mm*P0.65mm*; Footprint: Package_SO:MSOP-8_3x3mm_P0.65mm; Datasheet: http://ww1.microchip.com/downloads/en/DeviceDoc/22203b.pdf; Description_: ±0.25°C (±1°C) Typical (Maximum), Digital Temperature Sensor, MSOP-8
pins: 1 SDA (io), 2 SCL (in), 3 Alert (out), 4 GND (power), 5 A2 (in), 6 A1 (in), 7 A0 (in), 8 V_{DD} (power)

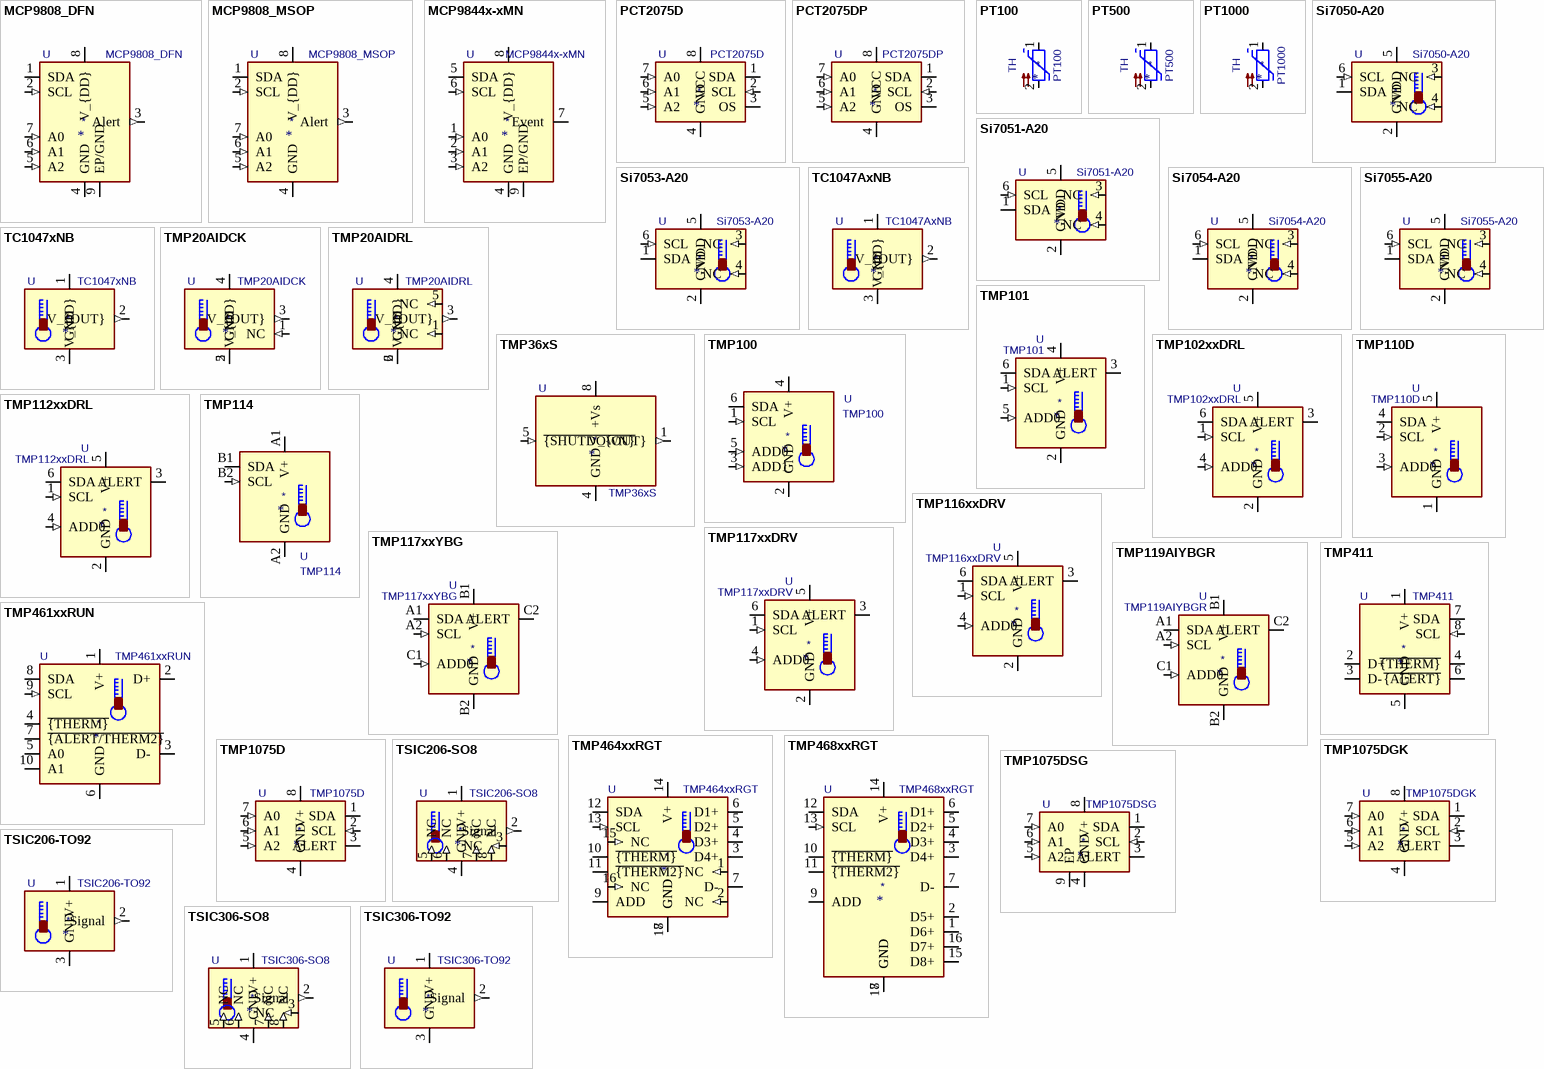
[diagram p2: symbols MCP9808_DFN to TSIC306-TO92]

## MCP9808_DFN
designator *  value MCP9808_DFN  Reference: U
±0.25°C (±0.5°C) Typical (Maximum), Digital Temperature Sensor, DFN-8; ki_keywords: temperature sensor I2C; ki_fp_filters: DFN*1EP*3x2mm*P0.5mm*; Footprint: Package_DFN_QFN:DFN-8-1EP_3x2mm_P0.5mm_EP1.7x1.4mm; Datasheet: http://ww1.microchip.com/downloads/en/DeviceDoc/MCP9808-0.5C-Maximum-Accuracy-Digital-Temperature-Sensor-Data-Sheet-DS20005095B.pdf; Description_: ±0.25°C (±0.5°C) Typical (Maximum), Digital Temperature Sensor, DFN-8
pins: 1 SDA (io), 2 SCL (in), 3 Alert (out), 4 GND (power), 5 A2 (in), 6 A1 (in), 7 A0 (in), 8 V_{DD} (power), 9 EP/GND (power)

## MCP9808_MSOP
designator *  value MCP9808_MSOP  Reference: U
±0.25°C (±0.5°C) Typical (Maximum), Digital Temperature Sensor, MSOP-8; ki_keywords: temperature sensor I2C; ki_fp_filters: MSOP*3x3mm*P0.65mm*; Footprint: Package_SO:MSOP-8_3x3mm_P0.65mm; Datasheet: http://ww1.microchip.com/downloads/en/DeviceDoc/22203b.pdf; Description_: ±0.25°C (±0.5°C) Typical (Maximum), Digital Temperature Sensor, MSOP-8
pins: 1 SDA (io), 2 SCL (in), 3 Alert (out), 4 GND (power), 5 A2 (in), 6 A1 (in), 7 A0 (in), 8 V_{DD} (power)

## MCP9844x-xMN
designator *  value MCP9844x-xMN  Reference: U
±1°C Accurate, 1.8V Digital Temperature Sensor, I²C, DFN-8; ki_keywords: I2C TWI; ki_fp_filters: DFN*3x2mm*P0.5mm*; Footprint: Package_DFN_QFN:DFN-8-1EP_3x2mm_P0.5mm_EP1.36x1.46mm; Datasheet: http://ww1.microchip.com/downloads/en/DeviceDoc/20005192B.pdf; Description_: ±1°C Accurate, 1.8V Digital Temperature Sensor, I²C, DFN-8
pins: 1 A0 (in), 2 A1 (in), 3 A2 (in), 4 GND (power), 5 SDA (io), 6 SCL (in), 7 Event (oc), 8 V_{DD} (power), 9 EP/GND (power)

## PCT2075D
designator *  value PCT2075D  Reference: U
NXP I2C-bus Fm+ digital temperature sensor and thermal watchdog, SO-8; ki_keywords: temperature sensor I2C single channel; ki_fp_filters: SO*3.9x4.9mm*P1.27mm*; Footprint: Package_SO:SO-8_3.9x4.9mm_P1.27mm; Datasheet: https://www.nxp.com/docs/en/data-sheet/PCT2075.pdf; Description_: NXP I2C-bus Fm+ digital temperature sensor and thermal watchdog, SO-8
pins: 1 SDA (io), 2 SCL (in), 3 OS (oc), 4 GND (power), 5 A2 (in), 6 A1 (in), 7 A0 (in), 8 VCC (power)

## PCT2075DP
designator *  value PCT2075DP  Reference: U
NXP I2C-bus Fm+ digital temperature sensor and thermal watchdog, TSSOP-8; ki_keywords: temperature sensor I2C single channel; ki_fp_filters: TSSOP*3x3mm*P0.65mm*; Footprint: Package_SO:TSSOP-8_3x3mm_P0.65mm; Datasheet: https://www.nxp.com/docs/en/data-sheet/PCT2075.pdf; Description_: NXP I2C-bus Fm+ digital temperature sensor and thermal watchdog, TSSOP-8
pins: 1 SDA (io), 2 SCL (in), 3 OS (oc), 4 GND (power), 5 A2 (in), 6 A1 (in), 7 A0 (in), 8 VCC (power)

## PT100
designator *  value PT100  Reference: TH
PT100 platinum temperature sensor (RTD); ki_keywords: platinum temperature sensor RTD; ki_fp_filters: TO?92* PIN?ARRAY* bornier* Terminal?Block* SOD70* R*1206* R*0805*; Datasheet: https://www.heraeus.com/media/media/group/doc_group/products_1/hst/sot_to/de_15/to_92_d.pdf; Description_: PT100 platinum temperature sensor (RTD)
pins: 1, 2

## PT500
designator *  value PT500  Reference: TH
PT500 platinum temperature sensor (RTD); ki_keywords: platinum temperature sensor RTD; ki_fp_filters: TO?92* PIN?ARRAY* bornier* Terminal?Block* SOD70* R*1206* R*0805*; Datasheet: https://www.heraeus.com/media/media/group/doc_group/products_1/hst/sot_to/de_15/to_92_d.pdf; Description_: PT500 platinum temperature sensor (RTD)
pins: 1, 2

## PT1000
designator *  value PT1000  Reference: TH
PT1000 platinum temperature sensor (RTD); ki_keywords: platinum temperature sensor RTD; ki_fp_filters: TO?92* PIN?ARRAY* bornier* Terminal?Block* SOD70* R*1206* R*0805*; Datasheet: https://www.heraeus.com/media/media/group/doc_group/products_1/hst/sot_to/de_15/to_92_d.pdf; Description_: PT1000 platinum temperature sensor (RTD)
pins: 1, 2

## Si7050-A20
designator *  value Si7050-A20  Reference: U
I2C Temperature Sensor, ±1.0ºC, DFN-6; ki_fp_filters: DFN*1EP*3x3mm*P1mm*; Footprint: Package_DFN_QFN:DFN-6-1EP_3x3mm_P1mm_EP1.65x2.55mm; Datasheet: https://www.silabs.com/documents/public/data-sheets/Si7050-1-3-4-5-A20.pdf; Description_: I2C Temperature Sensor, ±1.0ºC, DFN-6; ki_keywords: I2C Temperature Sensor
pins: 1 SDA (io), 2 GND (power), 3 NC (in), 4 NC (in), 5 VDD (power), 6 SCL (in)

## Si7051-A20
designator *  value Si7051-A20  Reference: U
I2C Temperature Sensor, ±0.1ºC, DFN-6; ki_fp_filters: DFN*1EP*3x3mm*P1mm*; Footprint: Package_DFN_QFN:DFN-6-1EP_3x3mm_P1mm_EP1.65x2.55mm; Datasheet: https://www.silabs.com/documents/public/data-sheets/Si7050-1-3-4-5-A20.pdf; Description_: I2C Temperature Sensor, ±0.1ºC, DFN-6; ki_keywords: I2C Temperature Sensor
pins: 1 SDA (io), 2 GND (power), 3 NC (in), 4 NC (in), 5 VDD (power), 6 SCL (in)

## Si7053-A20
designator *  value Si7053-A20  Reference: U
I2C Temperature Sensor, ±0.3ºC, DFN-6; ki_fp_filters: DFN*1EP*3x3mm*P1mm*; Footprint: Package_DFN_QFN:DFN-6-1EP_3x3mm_P1mm_EP1.65x2.55mm; Datasheet: https://www.silabs.com/documents/public/data-sheets/Si7050-1-3-4-5-A20.pdf; Description_: I2C Temperature Sensor, ±0.3ºC, DFN-6; ki_keywords: I2C Temperature Sensor
pins: 1 SDA (io), 2 GND (power), 3 NC (in), 4 NC (in), 5 VDD (power), 6 SCL (in)

## Si7054-A20
designator *  value Si7054-A20  Reference: U
I2C Temperature Sensor, ±0.4ºC, DFN-6; ki_fp_filters: DFN*1EP*3x3mm*P1mm*; Footprint: Package_DFN_QFN:DFN-6-1EP_3x3mm_P1mm_EP1.65x2.55mm; Datasheet: https://www.silabs.com/documents/public/data-sheets/Si7050-1-3-4-5-A20.pdf; Description_: I2C Temperature Sensor, ±0.4ºC, DFN-6; ki_keywords: I2C Temperature Sensor
pins: 1 SDA (io), 2 GND (power), 3 NC (in), 4 NC (in), 5 VDD (power), 6 SCL (in)

## Si7055-A20
designator *  value Si7055-A20  Reference: U
I2C Temperature Sensor, ±0.5ºC, DFN-6; ki_fp_filters: DFN*1EP*3x3mm*P1mm*; Footprint: Package_DFN_QFN:DFN-6-1EP_3x3mm_P1mm_EP1.65x2.55mm; Datasheet: https://www.silabs.com/documents/public/data-sheets/Si7050-1-3-4-5-A20.pdf; Description_: I2C Temperature Sensor, ±0.5ºC, DFN-6; ki_keywords: I2C Temperature Sensor
pins: 1 SDA (io), 2 GND (power), 3 NC (in), 4 NC (in), 5 VDD (power), 6 SCL (in)

## TC1047AxNB
designator *  value TC1047AxNB  Reference: U
Precision Temperature-to-Voltage Converter, 10mV/ºC, -40ºC to +125ºC, ±2.0ºC (max), 2.5V to 5.5V, SOT-23; ki_keywords: temperature sensor analog; ki_fp_filters: SOT?23*; Footprint: Package_TO_SOT_SMD:SOT-23; Datasheet: http://ww1.microchip.com/downloads/en/DeviceDoc/21498D.pdf; Description_: Precision Temperature-to-Voltage Converter, 10mV/ºC, -40ºC to +125ºC, ±2.0ºC (max), 2.5V to 5.5V, SOT-23
pins: 1 V_{DD} (power), 2 V_{OUT} (out), 3 GND (power)

## TC1047xNB
designator *  value TC1047xNB  Reference: U
Precision Temperature-to-Voltage Converter, 10mV/ºC, -40ºC to +125ºC, ±2.0ºC (max), 2.7V to 4.4V, SOT-23; ki_keywords: temperature sensor analog; ki_fp_filters: SOT?23*; Footprint: Package_TO_SOT_SMD:SOT-23; Datasheet: http://ww1.microchip.com/downloads/en/DeviceDoc/21498D.pdf; Description_: Precision Temperature-to-Voltage Converter, 10mV/ºC, -40ºC to +125ºC, ±2.0ºC (max), 2.7V to 4.4V, SOT-23
pins: 1 V_{DD} (power), 2 V_{OUT} (out), 3 GND (power)

## TMP20AIDCK
designator *  value TMP20AIDCK  Reference: U
Analog thermistor temperature sensor, ±2.5C accuracy, -55C to +130C, SC-70-5; ki_keywords: temperature sensor thermistor; ki_fp_filters: *SC?70*; Footprint: Package_TO_SOT_SMD:SOT-353_SC-70-5; Datasheet: http://www.ti.com/lit/ds/symlink/tmp20.pdf; Description_: Analog thermistor temperature sensor, ±2.5C accuracy, -55C to +130C, SC-70-5
pins: 1 NC (in), 2 GND (power), 3 V_{OUT} (out), 4 V_{DD} (power), 5 GND

## TMP20AIDRL
designator *  value TMP20AIDRL  Reference: U
Analog thermistor temperature sensor, ±2.5C accuracy, -55C to +130C, SOT-563-6; ki_keywords: temperature sensor thermistor; ki_fp_filters: SOT?563*; Footprint: Package_TO_SOT_SMD:SOT-563; Datasheet: http://www.ti.com/lit/ds/symlink/tmp20.pdf; Description_: Analog thermistor temperature sensor, ±2.5C accuracy, -55C to +130C, SOT-563-6
pins: 1 NC (in), 2 GND (power), 3 V_{OUT} (out), 4 V_{DD} (power), 5 NC (in), 6 GND

## TMP36xS
designator *  value TMP36xS  Reference: U
Low Voltage Temperature Sensor, SOIC-8; ki_keywords: Temperature Sensor SOIC-8; ki_fp_filters: SOIC?8*3.9x4.9mm*P1.27mm*; Footprint: Package_SO:SOIC-8_3.9x4.9mm_P1.27mm; Datasheet: https://www.analog.com/media/en/technical-documentation/data-sheets/TMP35_36_37.pdf; Description_: Low Voltage Temperature Sensor, SOIC-8
pins: 1 V_{OUT} (out), 4 GND (power), 5 ~{{SHUTDOWN}} (in), 8 +Vs (power)

## TMP100
designator *  value TMP100  Reference: U
Temperature Sensor with I2C/SMBus Interface, SOT-23-6; ki_keywords: temperature sensor i2c smbus; ki_fp_filters: SOT?23*; Footprint: Package_TO_SOT_SMD:SOT-23-6; Datasheet: http://www.ti.com/lit/gpn/tmp100; Description_: Temperature Sensor with I2C/SMBus Interface, SOT-23-6
pins: 1 SCL (in), 2 GND (power), 3 ADD1 (in), 4 V+ (power), 5 ADD0 (in), 6 SDA (io)

## TMP101
designator *  value TMP101  Reference: U
Digital Temperature Sensor with I2C/SMBus Interface, ±2°C, one-shot conversion, alert, SOT-23-6; ki_keywords: digital temperature sensor i2c smbus; ki_fp_filters: SOT?23*; Footprint: Package_TO_SOT_SMD:SOT-23-6; Datasheet: https://www.ti.com/lit/ds/symlink/tmp101.pdf; Description_: Digital Temperature Sensor with I2C/SMBus Interface, ±2°C, one-shot conversion, alert, SOT-23-6
pins: 1 SCL (in), 2 GND (power), 3 ALERT (oc), 4 V+ (power), 5 ADD0 (in), 6 SDA (io)

## TMP102xxDRL
designator *  value TMP102xxDRL  Reference: U
Digital Temperature Sensor, ±3°C, low-Power, SMBus, 12 bit, Two-Wire Serial Interface, SOT-563; ki_keywords: digital temperature sensor i2c smbus; ki_fp_filters: SOT?563*; Footprint: Package_TO_SOT_SMD:SOT-563; Datasheet: https://www.ti.com/lit/ds/symlink/tmp102.pdf; Description_: Digital Temperature Sensor, ±3°C, low-Power, SMBus, 12 bit, Two-Wire Serial Interface, SOT-563
pins: 1 SCL (in), 2 GND (power), 3 ALERT (oc), 4 ADD0 (in), 5 V+ (power), 6 SDA (io)